# Altium schematic symbol library IC_MCP1640.SchLib: 1 symbol
Pins are listed as number, name and electrical type; pins without a type are passive.

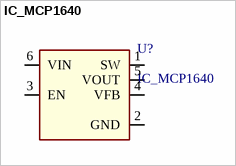
[diagram p0: symbol IC_MCP1640]

## IC_MCP1640
designator U?
pins: 1 SW, 2 GND, 3 EN, 4 VFB, 5 VOUT, 6 VIN